# EAGLE library part 5767003-9 (library Jack-connectors)
MICTOR Fine Pitch SMT Stacking Connectors, 38 pins, 11 mm height
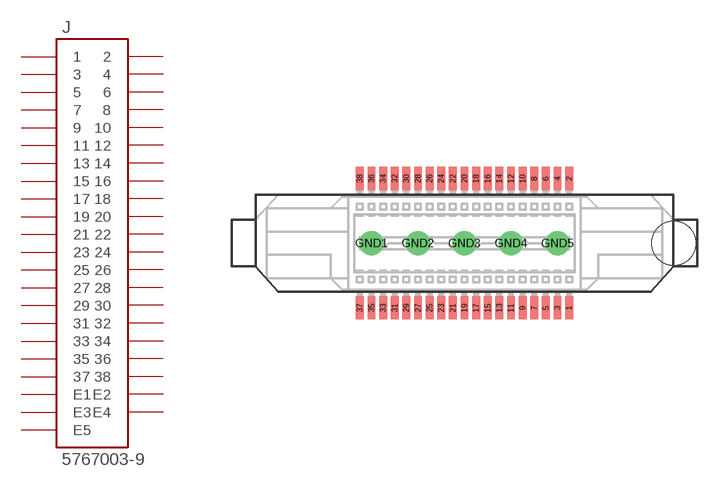
[diagram p27: symbol with the pads of 5767005-8; footprint 5767005-8]

Designator prefix J

## 5767003-9 (DESCRIPTION: MICTOR Fine Pitch SMT Stacking Connectors, 38 pins, 11 mm height; PACKAGE: 5767003-9)  [5767005-8]
1  1  pas
2  2  pas
3  3  pas
4  4  pas
5  5  pas
6  6  pas
7  7  pas
8  8  pas
9  9  pas
10  10  pas
11  11  pas
12  12  pas
13  13  pas
14  14  pas
15  15  pas
16  16  pas
17  17  pas
18  18  pas
19  19  pas
20  20  pas
21  21  pas
22  22  pas
23  23  pas
24  24  pas
25  25  pas
26  26  pas
27  27  pas
28  28  pas
29  29  pas
30  30  pas
31  31  pas
32  32  pas
33  33  pas
34  34  pas
35  35  pas
36  36  pas
37  37  pas
38  38  pas
GND1  E1  pas
GND2  E2  pas
GND3  E3  pas
GND4  E4  pas
GND5  E5  pas

## Footprint 5767005-8 (pad centres in mm)
smd 0.43 x 1.27: 1 5.715,-3.53; 2 5.715,3.53; 3 5.08,-3.53; 4 5.08,3.53; 5 4.445,-3.53; 6 4.445,3.53; 7 3.81,-3.53; 8 3.81,3.53; 9 3.175,-3.53; 10 3.175,3.53; 11 2.54,-3.53; 12 2.54,3.53; 13 1.905,-3.53; 14 1.905,3.53; 15 1.27,-3.53; 16 1.27,3.53; 17 0.635,-3.53; 18 0.635,3.53; 19 0,-3.53; 20 0,3.53; 21 -0.635,-3.53; 22 -0.635,3.53; 23 -1.27,-3.53; 24 -1.27,3.53; 25 -1.905,-3.53; 26 -1.905,3.53; 27 -2.54,-3.53; 28 -2.54,3.53; 29 -3.175,-3.53; 30 -3.175,3.53; 31 -3.81,-3.53; 32 -3.81,3.53; 33 -4.445,-3.53; 34 -4.445,3.53; 35 -5.08,-3.53; 36 -5.08,3.53; 37 -5.715,-3.53; 38 -5.715,3.53
drill 0.81: GND1 -5.08,0; GND2 -2.54,0; GND3 0,0; GND4 2.54,0; GND5 5.08,0
hole 2.39 at 11.43,0